# EAGLE library part S25FL032P (library wolfi)
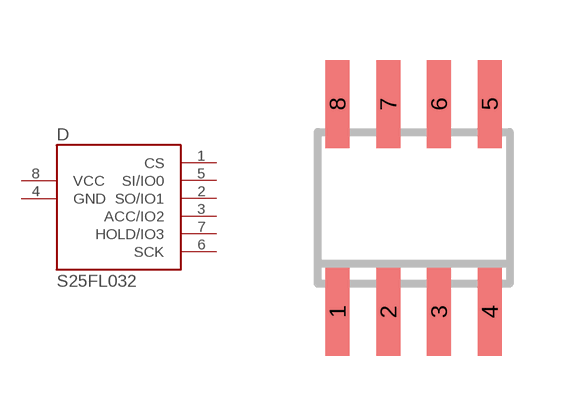
[diagram p23: symbol with the pads of SO8; footprint SO8]

Designator prefix D

## S25FL032PMFI01  [SO8]
1  CS
2  SO/IO1
3  ACC/IO2
4  GND
5  SI/IO0
6  SCK
7  HOLD/IO3
8  VCC

## Footprint SO8 (pad centres in mm)
smd 0.6 x 2.2: 1 -1.905,-2.6; 2 -0.635,-2.6; 3 0.635,-2.6; 4 1.905,-2.6; 5 1.905,2.6; 6 0.635,2.6; 7 -0.635,2.6; 8 -1.905,2.6